# EAGLE library part TSS-105-04-L-D-RA (library C3-Connector)
SAMTEC 5x2 SHROUDED RIGHT ANGLE 100mil .025" SQ POST HEADERS 5 Pins, 2 Rows, Right Angle, Shrouded, 10µ" Gold on Contact TSS Series Catalog Page (EN) <http://www.samtec.com/documents/webfiles/pdf/TSS_TH.PDF>
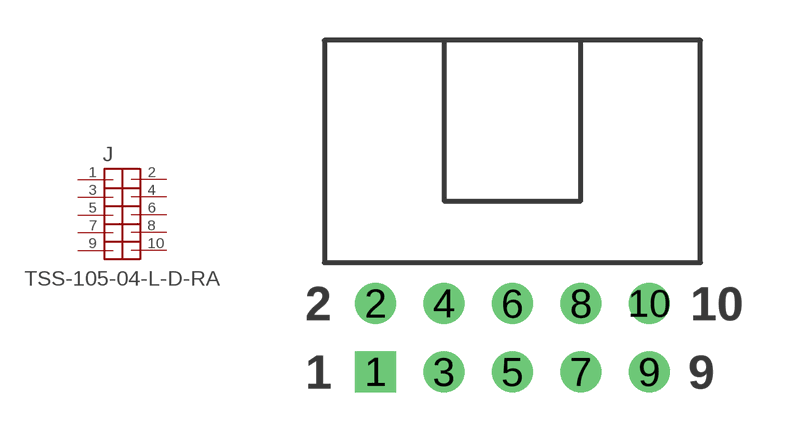
[diagram p9: symbol with the pads of SAMTEC_TSS-105-04-L-D-RA; footprint SAMTEC_TSS-105-04-L-D-RA]

Designator prefix J

## TSS-105-04-L-D-RA  [SAMTEC_TSS-105-04-L-D-RA]
1  1  pas
2  2  pas
3  3  pas
4  4  pas
5  5  pas
6  6  pas
7  7  pas
8  8  pas
9  9  pas
10  10  pas

## Footprint SAMTEC_TSS-105-04-L-D-RA (pad centres in mm)
SAMTEC 5x2 SHROUDED .025" SQ POST HEADERS 5 Pins, 2 Rows, Right Angle, Shrouded, 10µ" Gold on Contact TSS Series Catalog Page (EN) <http://www.samtec.com/documents/webfiles/pdf/TSS_TH.PDF> TSS Assembly Drawing <http://www.samtec.com/documents/webfiles/cpdf/TSS-1XX-XX-XXX-X-XX-XX-MKT.pdf>
drill 1.016 square: 1 -5.08,-1.27
drill 1.016: 2 -5.08,1.27; 3 -2.54,-1.27; 4 -2.54,1.27; 5 0,-1.27; 6 0,1.27; 7 2.54,-1.27; 8 2.54,1.27; 9 5.08,-1.27; 10 5.08,1.27